# Altium schematic symbol library 532611371.SchLib: 1 symbol
Pins are listed as number, name and electrical type; pins without a type are passive.

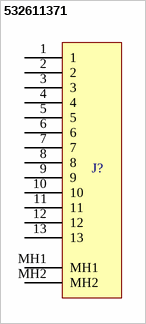
[diagram p0: symbol 532611371]

## 532611371
designator J?  (value not drawn)
Molex Picoblade $13-pin connector
pins: 1, 2, 3, 4, 5, 6, 7, 8, 9, 10, 11, 12, 13, MH1 (power), MH2 (power)